# Altium schematic symbol library Analog and Interface.SchLib: 29 symbols (part 2 of 2)
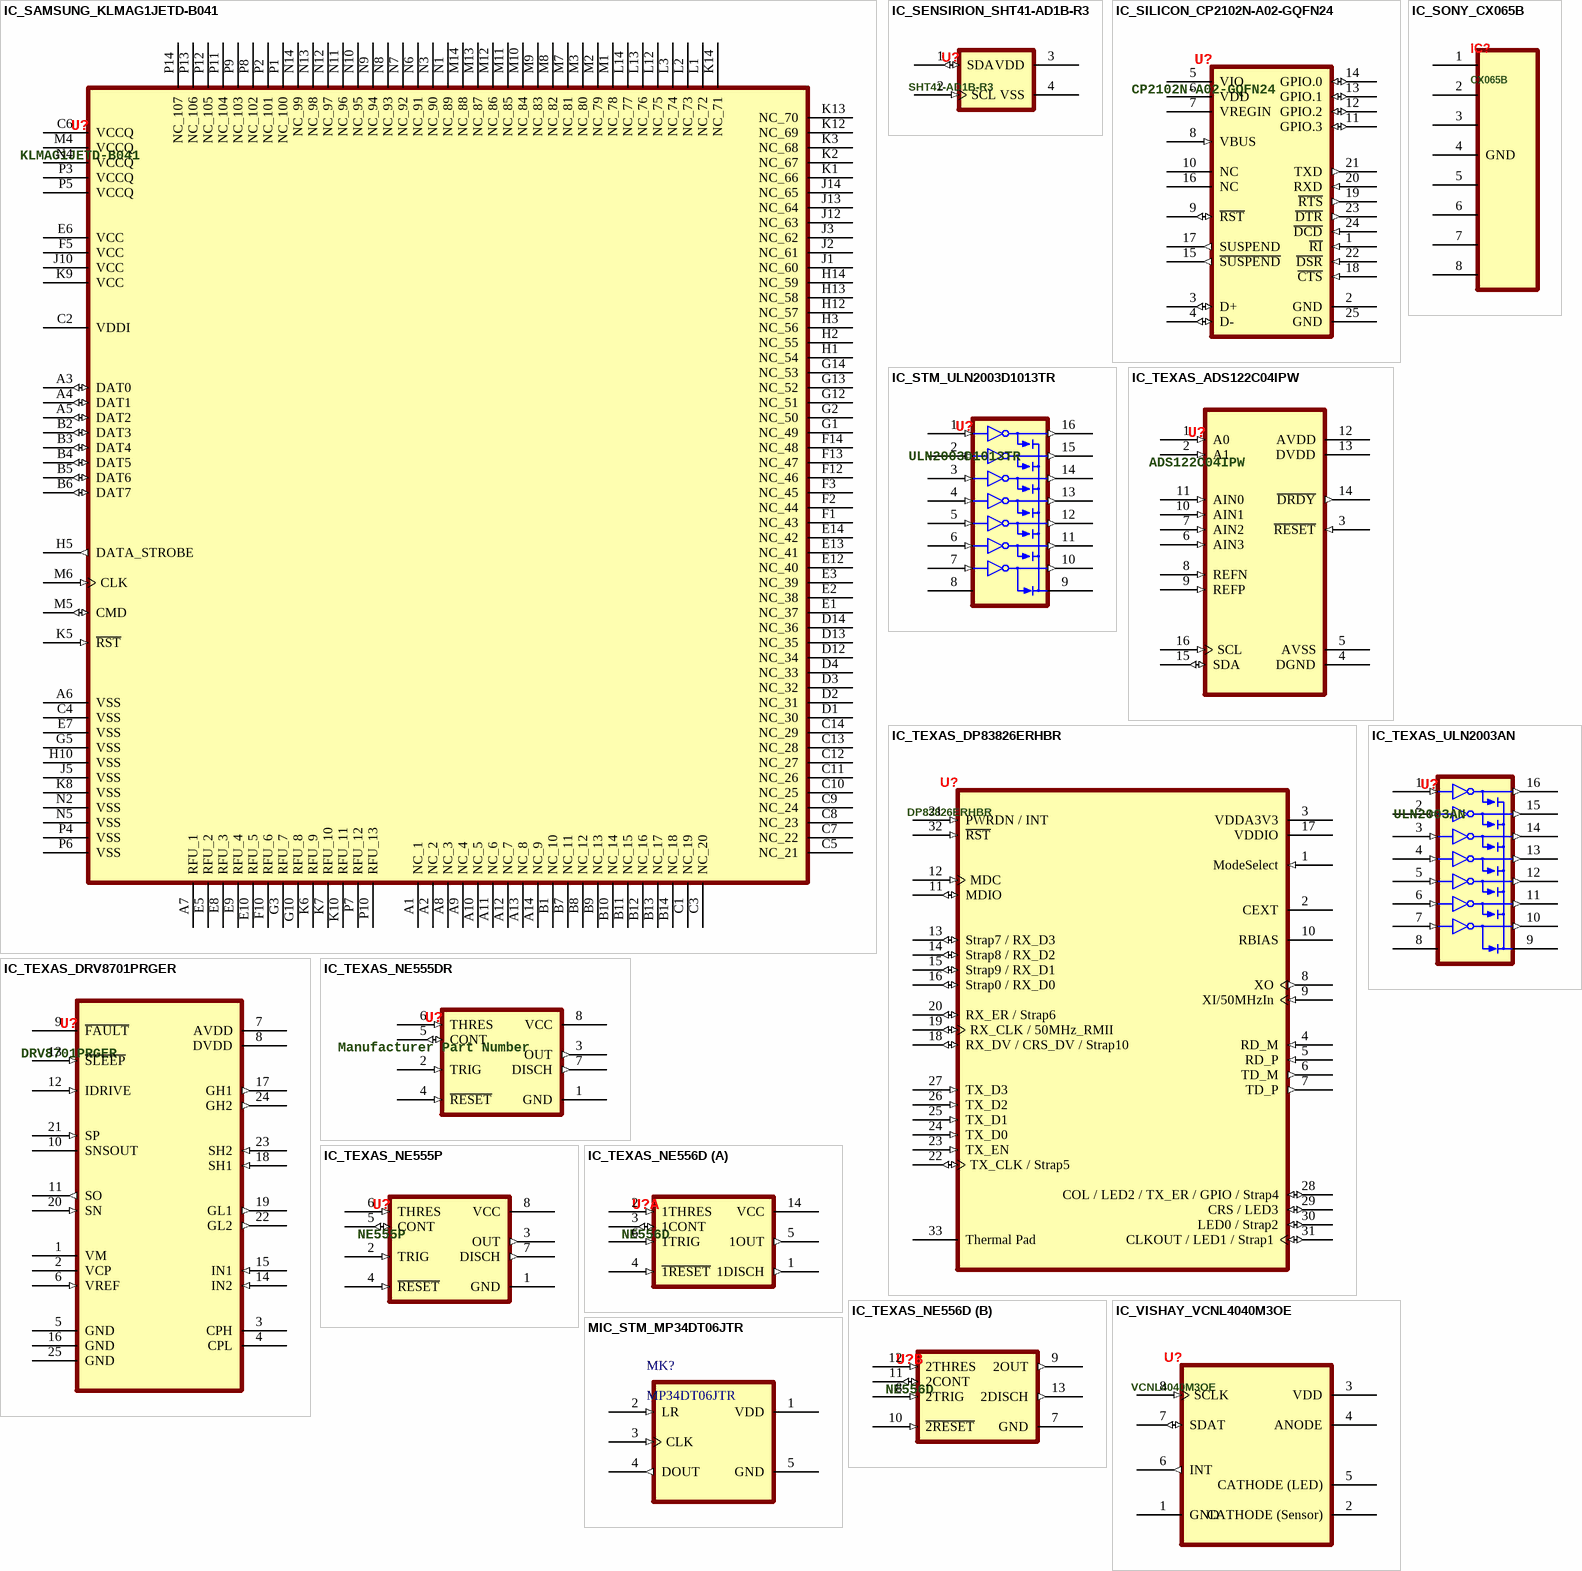
[diagram p3: symbols IC_SAMSUNG_KLMAG1JETD-B041 to MIC_STM_MP34DT06JTR]

## IC_TEXAS_NE555P
designator U?, comment NE555P
Timer/Oscillator (Single), 555 Type IC 100kHz 8-PDIP; Manufacturer: Texas Instruments; Operating Supply Current: 2mA; Min Supply Voltage: 4.5V; Max Supply Voltage: 16V; Operating Supply Voltage: 5V; ComponentLinkDescription: Datasheet; Manufacturer Part Number: NE555P; Category: Timers and Oscillators; Case/Package: 8-PDIP; Min Operating Temperature: 0°C; Max Operating Temperature: 70°C; RoHS Compliant: Yes; ComponentLinkURL: https://www.ti.com/lit/ds/symlink/se555.pdf; Supplier 1: Digi-Key; Supplier 2: Mouser; Supplier Part Number 1: 296-NE555P-ND; Supplier Part Number 2: 595-NE555P
footprint DIP762W53P254L1016H508Q8 (Dual-In-Line Package; Lead Span 7.62mm, Lead Width 0.53mm, Pin Pitch 2.54mm, Body Length 10.16mm, Body Height 5.08mm, Pin Qty 8)
footprint DIP762W53P254L1016H508Q8-SKT (Dual-In-Line Package; Lead Span 7.62mm, Lead Width 0.53mm, Pin Pitch 2.54mm, Body Length 10.16mm, Body Height 5.08mm, Pin Qty 8 Socketed)
simulation model 555 (Model Description)
pins: 1 GND (power) "Ground", 2 TRIG (in) "Start of timing input. TRIG < 1/2 CONT sets output high and discharge open", 3 OUT (out) "High current timer output signal", 4 ~{RESET} (in) "Active low reset input forces output and discharge low", 5 CONT (io) "Controls comparator thresholds. Outputs 2/3 VCC, allows bypass capacitor connection", 6 THRES (in) "End of timing input. THRESH > CONT sets output low and discharge low", 7 DISCH (out) "Open collector output to discharge timing capacitor", 8 VCC (power) "Input supply voltage"

## IC_TEXAS_NE556D
designator U?, comment NE556D
Timer/Oscillator (Dual) 555 Type IC 100kHz 14-SOIC; Manufacturer: Texas Instruments; Min Supply Voltage: 4.5V; Max Supply Voltage: 16V; Operating Supply Current: 360uA; ComponentLinkDescription: Datasheet; Manufacturer Part Number: NE556D; Category: Programmable Timers and Oscillators; Case/Package: 14-SOIC; Min Operating Temperature: 0°C; Max Operating Temperature: 70°C; RoHS Compliant: Yes; ComponentLinkURL: https://www.digikey.com/htmldatasheets/production/24120/0/0/1/ne556d.pdf; Supplier 1: Digi-Key; Supplier 2: Mouser; Supplier Part Number 1: 296-6503-5-ND; Supplier Part Number 2: 595-NE556D
footprint SOIC127P780X200-14N (SOIC, 14-Leads, Body 10.20x5.30mm, Pitch 1.27mm, IPC Medium Density)
footprint SOIC127P780X200-14L (SOIC, 14-Leads, Body 10.20x5.30mm, Pitch 1.27mm, IPC High Density)
footprint SOIC127P780X200-14M (SOIC, 14-Leads, Body 10.20x5.30mm, Pitch 1.27mm, IPC Low Density)
simulation model 555 (Model Description)
part A pins: 1 1DISCH (out), 2 1THRES (in), 3 1CONT (io), 4 ~{1RESET} (in), 5 1OUT (out), 6 1TRIG (in), 14 VCC (power)
part B pins: 7 GND (power), 8 2TRIG (in), 9 2OUT (out), 10 ~{2RESET} (in), 11 2CONT (io), 12 2THRES (in), 13 2DISCH (out)

## IC_TEXAS_ULN2003AN
designator U?, comment ULN2003AN
Power Switch/Driver 1:1 7-NPN 500mA 16-PDIP; Manufacturer: Texas Instruments; Polarity: NPN; Output Voltage: 50V; ComponentLinkDescription: Datasheet; Manufacturer Part Number: ULN2003AN; Category: Power Distribution Switches, Load Drivers; Case/Package: 16-PDIP; Min Operating Temperature: -20°C; Max Operating Temperature: 70°C; RoHS Compliant: Yes; ComponentLinkURL: https://www.ti.com/lit/ds/symlink/uln2003a.pdf; Supplier 1: Digi-Key; Supplier 2: Mouser; Supplier Part Number 1: 296-1979-5-ND; Supplier Part Number 2: 595-ULN2003AN; Output Current: 500mA
footprint DIP762W52P254L1930H500Q16-SKT (Dual-In-Line Package; Lead Span 7.62mm, Lead Width 0.52mm, Pin Pitch 2.54mm, Body Length 19.30mm, Body Height 5.00mm, Pin Qty 18 Socketed)
footprint DIP762W52P254L1930H500Q16 (Dual-In-Line Package; Lead Span 7.62mm, Lead Width 0.52mm, Pin Pitch 2.54mm, Body Length 19.30mm, Body Height 5.00mm, Pin Qty 18)
pins: 1 IN 1 (in), 2 IN 2 (in), 3 IN 3 (in), 4 IN 4 (in), 5 IN 5 (in), 6 IN 6 (in), 7 IN 7 (in), 8 GND (power), 9 COM (power) "Common Free Wheeling Diodes", 10 OUT 7 (out), 11 OUT 6 (out), 12 OUT 5 (out), 13 OUT 4 (out), 14 OUT 3 (out), 15 OUT 2 (out), 16 OUT 1 (out)

## IC_VISHAY_VCNL4040M3OE
designator U?, comment VCNL4040M3OE
Sensor Optical Ambient 550nm I²C 8-SMD Module; Manufacturer: Vishay Semiconductors; Sensing Distance: 200mm; Output Current: 200mA; Output Type: I2C,Digital; ComponentLinkDescription: Datasheet; Max Supply Voltage: 3.6V; Min Supply Voltage: 2.5V; Manufacturer Part Number: VCNL4040M3OE; Category: Optical Sensors; Case/Package: SMD/SMT; Min Operating Temperature: -40°C; Max Operating Temperature: 85°C; Wavelength: 550nm; RoHS Compliant: Yes; ComponentLinkURL: https://www.vishay.com/docs/84274/vcnl4040.pdf; Supplier 1: Digi-Key; Supplier 2: Mouser; Supplier Part Number 1: VCNL4040M3OECT-ND; Supplier Part Number 2: 78-VCNL4040M3OE
footprint IC_VISHAY_VCNL4040_4X2X1.1 (Light/Proximity Sensor Vishay VCNL4040)
pins: 1 GND (power) "Ground", 2 CATHODE (Sensor) (power) "Cathode (sensor) connection", 3 VDD (power) "Power Supply Input", 4 ANODE (power) "Anode for IRED", 5 CATHODE (LED) (power) "Cathode (LED) connection", 6 INT (out) "Interrupt", 7 SDAT (io) "I2C data bus data input/output", 8 SCLK (in) "I2C digital bus clock input"

## MIC_STM_MP34DT06JTR
designator MK?, comment MP34DT06JTR
100 Hz ~ 10 kHz Digital, PDM Microphone MEMS (Silicon) Omnidirectional (-26dB ±3dB @ 94dB SPL) Solder Pads; Manufacturer: STMicroelectronics; Operating Supply Current: 650uA; ComponentLinkDescription: Datasheet; Max Supply Voltage: 3.6V; Min Supply Voltage: 1.6V; Manufacturer Part Number: MP34DT06JTR; Category: Microphones; Output Type: Digital; Direction: Omnidirectional; RoHS Compliant: Yes; Supplier 1: Digi-Key; Supplier Part Number 1: 497-18180-1-ND; Supplier 2: Mouser; Supplier Part Number 2: 511-MP34DT06JTR; Case/Package: SMD/SMT; ComponentLinkURL: https://www.st.com/resource/en/datasheet/mp34dt06j.pdf; Max Operating Temperature: 85°C; Min Operating Temperature: -40°C
footprint MIC_MP34DT06JTR (MEMS audio sensor omnidirectional digital microphone)
pins: 1 VDD (power) "Power supply", 2 LR (in) "Left/Right channel selection", 3 CLK (in) "Synchronization input clock", 4 DOUT (out) "Left/Right PDM Data output", 5 GND (power) "Ground"